# EAGLE library part 687150182122 (library Eagle_FPC_CONNECTOR_AND_FFC_CAB (rev18c))
CONFPCI - 0.5 MM PITCH HORIZONTAL DUAL CONTACT, BACK FLIP ACTUATOR=>Code : ConFPC Characteristics INSULATOR: LCP FLAMABILITY RATING: UL94-V0 COLOUR: IVORY CONTACT MATERIAL: PHOSPHOR BRONZE CONTACT PLATING: 80 μ’’ MAT TIN OVER 50 μ’’ NICKEL CONTACT TYPE: STAMPED TAB MATERIAL: BRASS TAB PLATING: 80 μ’’ MAT TIN OVER 50 μ’’ NICKEL TAB TYPE: STAMPED ACTUATOR MATERIAL: PA9T ACTUATOR COLOUR: BLACK QUALITY CLASS: 20 MATING CYCLES PITCH: 0.50 MM PACKAGING:TAPE AND REEL COMPLIANCE: ROHS AND HALOGEN FREE OPERATING TEMPERATURE: -40°C UP TO +105°C ELECTRICAL CURRENT RATING: 0.5A WORKING VOLTAGE: 50 VAC WITHSTANDING VOLTAGE: 0.25 KVAC/min CONTATC RESISTANCE: 30 mOHM INSULATION RESISTANCE: >500 MΩ <http://katalog.we-online.de/media/images/v2/Family_WR-FPC_687186182122.jpg> 2016 (C) Wurth Elektronik
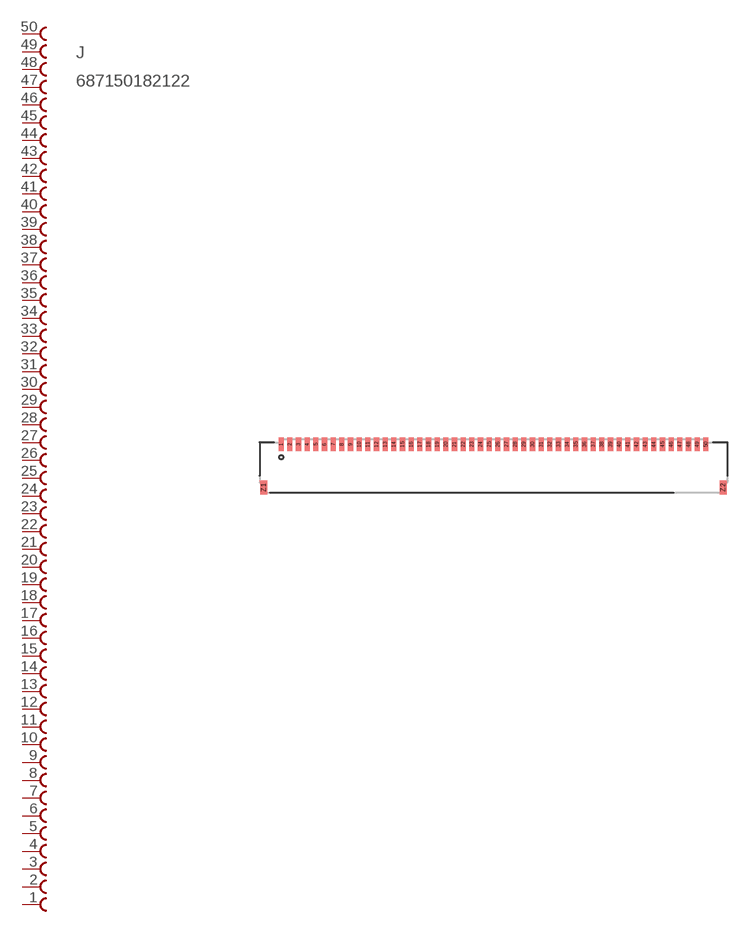
[diagram p146: symbol with the pads of 687150182122; footprint 687150182122]

Designator prefix J

## 687150182122  [687150182122]
1  50  pas
2  49  pas
3  48  pas
4  47  pas
5  46  pas
6  45  pas
7  44  pas
8  43  pas
9  42  pas
10  41  pas
11  40  pas
12  39  pas
13  38  pas
14  37  pas
15  36  pas
16  35  pas
17  34  pas
18  33  pas
19  32  pas
20  31  pas
21  30  pas
22  29  pas
23  28  pas
24  27  pas
25  26  pas
26  25  pas
27  24  pas
28  23  pas
29  22  pas
30  21  pas
31  20  pas
32  19  pas
33  18  pas
34  17  pas
35  16  pas
36  15  pas
37  14  pas
38  13  pas
39  12  pas
40  11  pas
41  10  pas
42  9  pas
43  8  pas
44  7  pas
45  6  pas
46  5  pas
47  4  pas
48  3  pas
49  2  pas
50  1  pas

## Footprint 687150182122 (pad centres in mm)
smd 0.3 x 0.8: 1 -12.25,1.25; 2 -11.75,1.25; 3 -11.25,1.25; 4 -10.75,1.25; 5 -10.25,1.25; 6 -9.75,1.25; 7 -9.25,1.25; 8 -8.75,1.25; 9 -8.25,1.25; 10 -7.75,1.25; 11 -7.25,1.25; 12 -6.75,1.25; 13 -6.25,1.25; 14 -5.75,1.25; 15 -5.25,1.25; 16 -4.75,1.25; 17 -4.25,1.25; 18 -3.75,1.25; 19 -3.25,1.25; 20 -2.75,1.25; 21 -2.25,1.25; 22 -1.75,1.25; 23 -1.25,1.25; 24 -0.75,1.25; 25 -0.25,1.25; 26 0.25,1.25; 27 0.75,1.25; 28 1.25,1.25; 29 1.75,1.25; 30 2.25,1.25; 31 2.75,1.25; 32 3.25,1.25; 33 3.75,1.25; 34 4.25,1.25; 35 4.75,1.25; 36 5.25,1.25; 37 5.75,1.25; 38 6.25,1.25; 39 6.75,1.25; 40 7.25,1.25; 41 7.75,1.25; 42 8.25,1.25; 43 8.75,1.25; 44 9.25,1.25; 45 9.75,1.25; 46 10.25,1.25; 47 10.75,1.25; 48 11.25,1.25; 49 11.75,1.25; 50 12.25,1.25
smd 0.4 x 0.8: Z1 -13.25,-1.25; Z2 13.25,-1.25